# EAGLE library part 1-1571983-4 (library Switches)
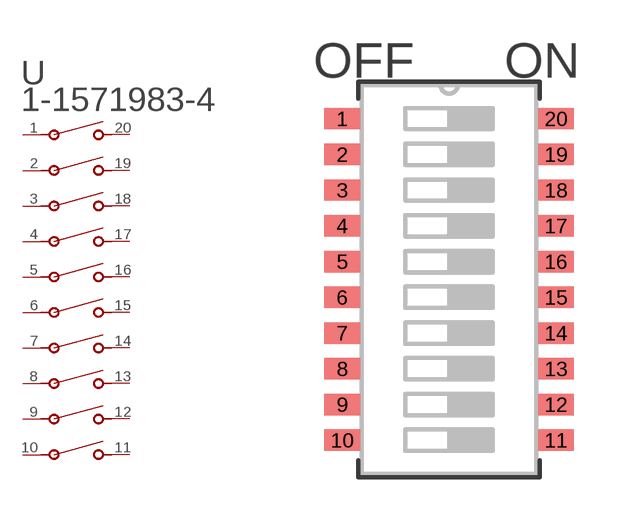
[diagram p35: symbol with the pads of SWSO20_299X91P50; footprint SWSO20_299X91P50]

Designator prefix U

## 1-1571983-4 (BUILT_BY: EMA_UL_Team; CATEGORY: DIP & SIP Switches; COPYRIGHT: Copyright (C) 2016 Accelerated Designs. All rights reserved; DESCRIPTION: GDH10STR04=DIP SWITCH; MANUFACTURER_PART_NUMBER: 1-1571983-4; PART_STATUS: active; SERIES: Alcoswitch DIP,Alcoswitch DIP GDH; VENDOR: TE Connectivity)  [SWSO20_299X91P50]
1  1  pas
2  2  pas
3  3  pas
4  4  pas
5  5  pas
6  6  pas
7  7  pas
8  8  pas
9  9  pas
10  10  pas
11  11  pas
12  12  pas
13  13  pas
14  14  pas
15  15  pas
16  16  pas
17  17  pas
18  18  pas
19  19  pas
20  20  pas

## Footprint SWSO20_299X91P50 (pad centres in mm)
smd 1.27 x 0.762: 1 -3.797,5.715; 2 -3.797,4.445; 3 -3.797,3.175; 4 -3.797,1.905; 5 -3.797,0.635; 6 -3.797,-0.635; 7 -3.797,-1.905; 8 -3.797,-3.175; 9 -3.797,-4.445; 10 -3.797,-5.715; 11 3.797,-5.715; 12 3.797,-4.445; 13 3.797,-3.175; 14 3.797,-1.905; 15 3.797,-0.635; 16 3.797,0.635; 17 3.797,1.905; 18 3.797,3.175; 19 3.797,4.445; 20 3.797,5.715